# Altium schematic symbol library SCH - POWER - SWITCHMODE - TI TPS65160_PWP_28.SchLib: 1 symbol
Pins are listed as number, name and electrical type; pins without a type are passive.

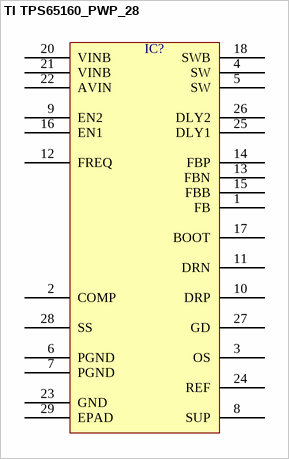
[diagram p0: symbol TI TPS65160_PWP_28]

## TI TPS65160_PWP_28
designator IC?  (value not drawn)
pins: 1 FB, 2 COMP, 3 OS, 4 SW, 5 SW, 6 PGND, 7 PGND, 8 SUP, 9 EN2, 10 DRP, 11 DRN, 12 FREQ, 13 FBN, 14 FBP, 15 FBB, 16 EN1, 17 BOOT, 18 SWB, 20 VINB, 21 VINB, 22 AVIN, 23 GND, 24 REF, 25 DLY1, 26 DLY2, 27 GD, 28 SS, 29 EPAD